# EAGLE library part T220 (library library)
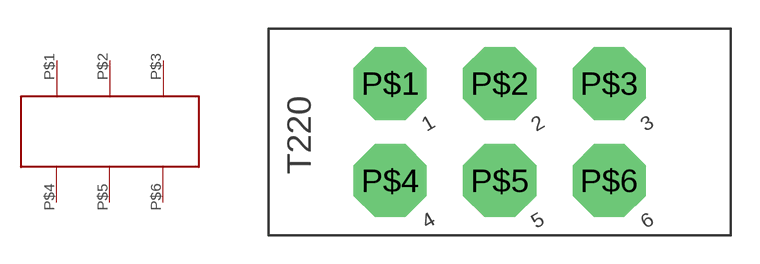
[diagram p14: symbol with the pads of T220; footprint T220]

Designator prefix -

## T220  [T220]
P$1  P$1
P$2  P$2
P$3  P$3
P$4  P$4
P$5  P$5
P$6  P$6

## Footprint T220 (pad centres in mm)
drill 1.905 pad 3.81 octagon: P$1 0,5.08; P$2 5.715,5.08; P$3 11.43,5.08; P$4 0,0; P$5 5.715,0; P$6 11.43,0